# Altium footprint library PcbLib.PcbLib: 41 footprints (part 2 of 3)
Each footprint in its own frame and in the unit in brackets; x right, y up, seen from the top. Pads: shape width x height; smd on the part's side, far side on the other; paste and mask are expansions set on the pad; w line width, h text height; cw(c..) or ccw(c..) is an arc to the next point about the centre after c.
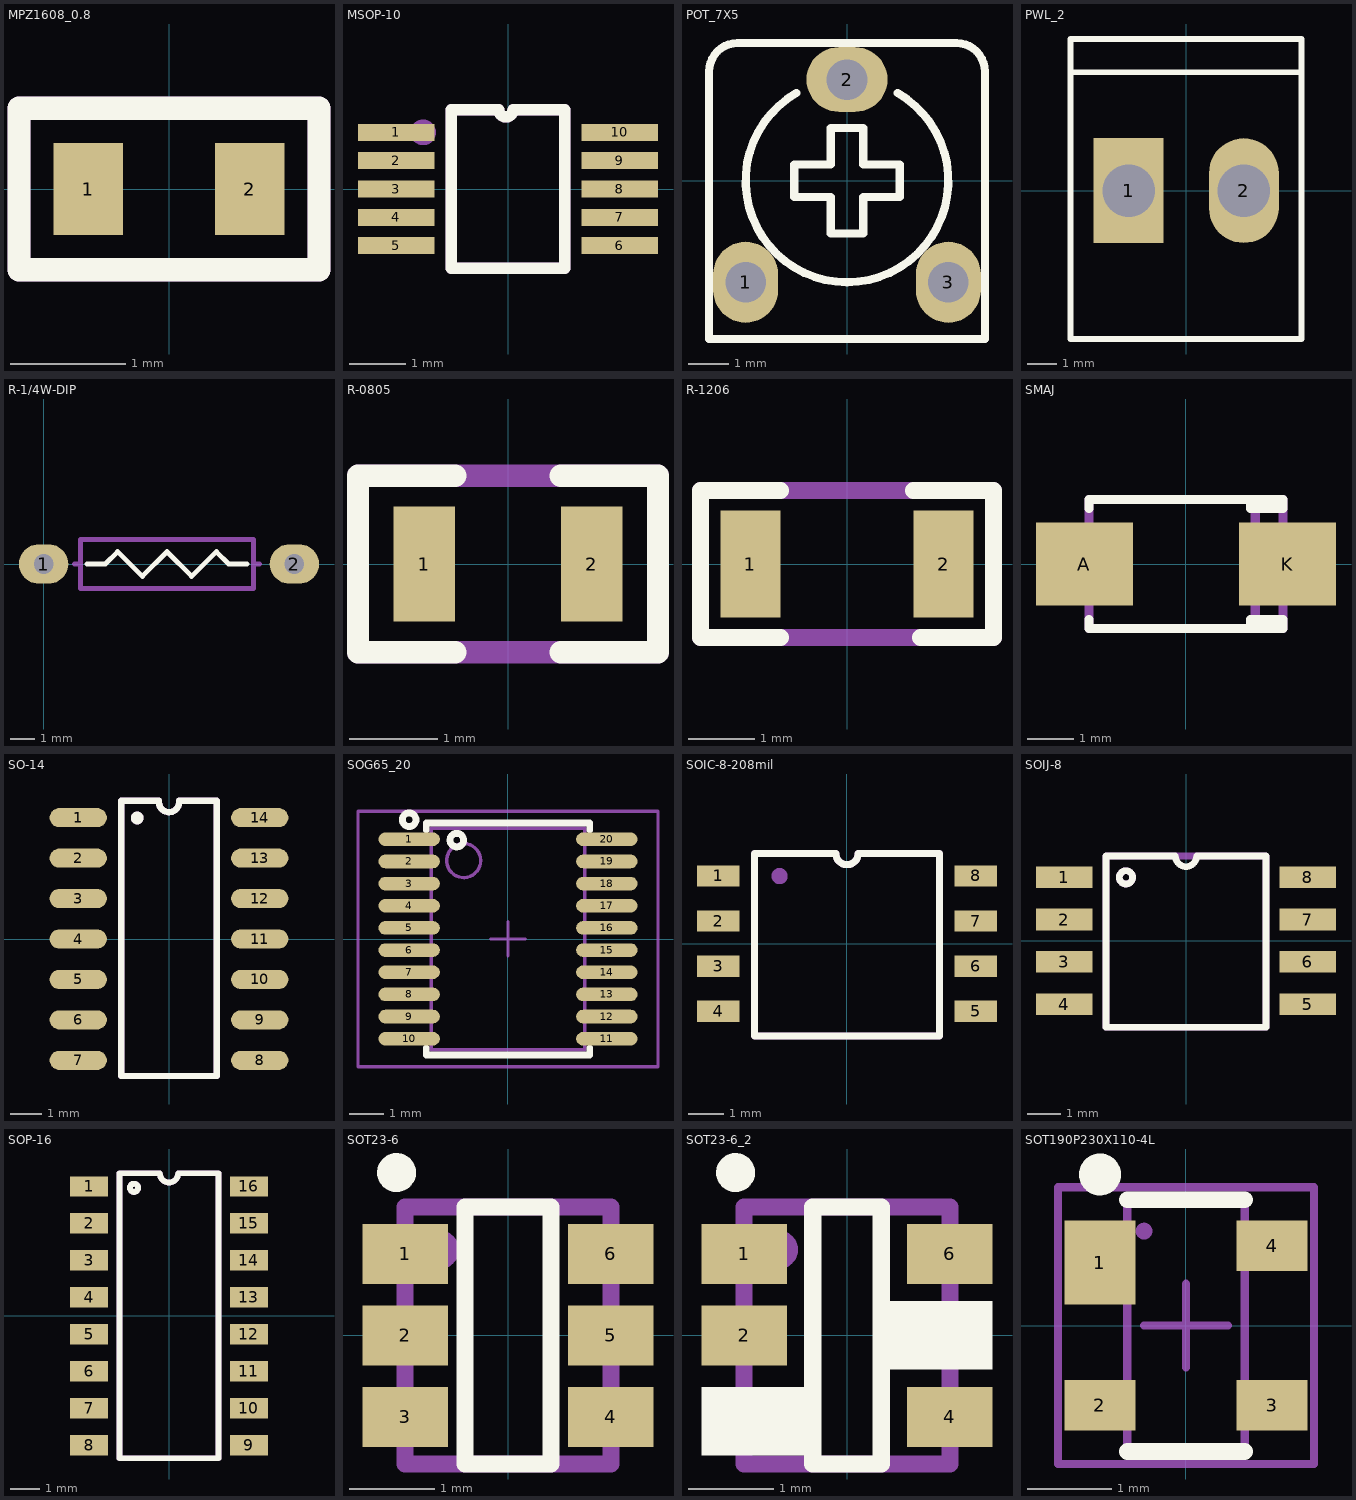
[diagram p1: the footprints below, top view; thin cyan lines are the x and y axes]

## MPZ1608_0.8 [mm]
pads (2):
  rect 0.6x0.8 smd: 1(-0.7,0) 2(0.7,0)
Top Overlay:
  lines w0.2: -1.3,-0.7 -1.3,0.7 1.3,0.7 1.3,-0.7 -1.3,-0.7
Mechanical 29:
  lines w0.2: -1.3,-0.7 1.3,-0.7 1.3,0.7 -1.3,0.7 -1.3,-0.7
  text ".Designator" at -0.6,-0.233 h0.5
3D body "Part4.STEP": height 0.8, standoff 0, extent -0.8,-0.4 0.8,0.4

## MSOP-10 [mm]
pads (10):
  rect 1.35x0.3 smd mask+0.05: 1(-1.975,1) 2(-1.975,0.5) 3(-1.975,0) 4(-1.975,-0.5) 5(-1.975,-1) 6(1.975,-1) 7(1.975,-0.5) 8(1.975,0) 9(1.975,0.5) 10(1.975,1)
Top Overlay:
  lines w0.2: 0.962,1.4 0.087,1.4 cw(c-0.038,1.4) -0.162,1.4 -1,1.4 -1,-1.4 1,-1.4 1,1.4
Mechanical 29:
  circle w0.254: c-1.5,1 r0.1
  lines w0.2: 0.962,1.4 0.087,1.4 cw(c-0.038,1.4) -0.162,1.4 -1,1.4 -1,-1.4 1,-1.4 1,1.4
  text ".Designator" at 0.233,-1 h0.8
3D body "User Library-msop-10.step": height 1.15, standoff 0, extent -2.45,-1.5 2.45,1.5

## POT_7X5 [mm] "POT, TRIM, 7.5X5.0mm, pitch: 5.0mm"
pads (3):
  oval 1.6x2 hole 1: 1(-2.5,-2.5) 3(2.5,-2.5)
  oval 2x1.6 hole 1: 2(0,2.5)
Top Overlay:
  lines w0.2: -1.25,2.165 ccw(c0,0) 1.25,2.165 ; -3.4,-3.9 3.4,-3.9 3.4,2.7 ccw(c2.7,2.7) 2.7,3.4 -2.7,3.4 ccw(c-2.7,2.7) -3.4,2.7 -3.4,-3.9 ; -1.3,-0.4 -0.4,-0.4 -0.4,-1.3 0.4,-1.3 0.4,-0.4 1.3,-0.4 1.3,0.4 0.4,0.4 0.4,1.3 -0.4,1.3 -0.4,0.4 -1.3,0.4 -1.3,-0.4
3D body "User Library-Pot - RES_VAR1.STEP": height 7.5, standoff -3.4, extent -3.25,-3.775 3.25,3.275

## PWL_2 [mm] "Connector; Header; 2 Position"
height 0.001
pads (2):
  rect 2.4x3.6 hole 1.8: 1(-1.98,0)
  oval 2.4x3.6 hole 1.8: 2(1.98,0)
Top Overlay:
  lines w0.2: -3.98,4.064 3.96,4.064 ; -3.98,-5.1 3.96,-5.1 3.96,5.207 -3.98,5.207 -3.98,-5.1
3D body "PWL-2.stp": height 13.5, standoff -4, extent -3.96,-5 3.96,5

## R-1/4W-DIP [mm]
pads (2):
  oval 2x1.6 hole 0.8 paste+0 mask+0.04: 1(0,0) 2(10.16,0)
Top Overlay:
  lines w0.2: 1.75,0 2.5,0 3,0.5 4,-0.5 ; 8.25,0 7.5,0 ; 4,-0.5 4,-0.5 ; 4,-0.5 5,0.5 6,-0.5 ; 6,-0.5 6,-0.5 ; 6,-0.5 7,0.5 7.5,0 ; 7.5,0 7.5,0
Mechanical 29:
  lines w0.2: 1.25,0 1.5,0 ; 8.5,0 8.75,0 ; 1.5,-1 8.5,-1 8.5,1 1.5,1 1.5,-1
  text ".Designator" at 3.45,-0.467 h1
3D body "User Library-RESISTOR, 0_25 W, 0_4 IN LEAD PITCH.step": height 2.93, standoff -2.54, extent -0.305,-1.156 10.465,1.156

## R-0805 [mm]
pads (2):
  rect 0.7x1.3 smd: 1(-0.95,0) 2(0.95,0)
Top Overlay:
  lines w0.254: -0.6,-1 -1.7,-1 -1.7,1 -0.6,1 ; 0.6,-1 1.7,-1 1.7,1 0.6,1
Mechanical 29:
  lines w0.254: -1.7,-1 1.7,-1 1.7,1 -1.7,1 -1.7,-1
  text ".Designator" at -0.996,-0.413 h1
3D body "Res0805.step": height 0.6, standoff 0, extent -1,-0.625 1,0.625

## R-1206 [mm]
pads (2):
  rect 0.9x1.6 smd: 1(-1.45,0) 2(1.45,0)
Top Overlay:
  lines w0.254: -1,-1.1 -2.2,-1.1 -2.2,1.1 -1,1.1 ; 1,1.1 2.2,1.1 2.2,-1.1 1.1,-1.1
Mechanical 29:
  lines w0.254: -2.2,-1.1 2.2,-1.1 2.2,1.1 -2.2,1.1 -2.2,-1.1
  text ".Designator" at -0.996,-0.163 h1
3D body "Res1206.step": height 0.6, standoff 0, extent -1.575,-0.8 1.625,0.8

## SMAJ [mm]
pads (2):
  rect 2.1x1.8 smd: A(-2.2,0) K(2.2,0)
Top Overlay:
  lines w0.2: -2.1,-1.2 -2.1,-1.4 2.1,-1.4 2.1,-1.2 1.4,-1.2 1.4,-1.4 ; -2.1,1.2 -2.1,1.4 2.1,1.4 2.1,1.2 1.4,1.2 1.4,1.4 ; 1.4,-1.3 2.1,-1.3 ; 1.4,1.3 2.1,1.3
Mechanical 29:
  lines w0.2: 1.5,-1.4 1.5,1.4 ; -2.1,-1.4 -2.1,1.4 2.1,1.4 2.1,-1.4 -2.1,-1.4
  text ".Designator" at -1.2,-0.367 h1
3D body "User Library-SMAJ.step": height 2, standoff 0.01, extent -2.465,-1.27 2.465,1.27

## SO-14 [mm]
pads (14):
  oval 1.8x0.6 smd: 1(-2.85,3.81) 2(-2.85,2.54) 3(-2.85,1.27) 4(-2.85,0) 5(-2.85,-1.27) 6(-2.85,-2.54) 7(-2.85,-3.81) 8(2.85,-3.81) 9(2.85,-2.54) 10(2.85,-1.27) 11(2.85,0) 12(2.85,1.27) 13(2.85,2.54) 14(2.85,3.81)
Top Overlay:
  circle w0.2: c-1,3.8 r0.1
  lines w0.2: -0.315,4.339 ccw(c0,4.3) 0.316,4.33 ; -0.315,4.345 -1.5,4.345 -1.5,-4.3 1.5,-4.3 1.5,4.345 0.316,4.345
Mechanical 29:
  circle w0.2: c-1,3.8 r0.1
  lines w0.2: -0.315,4.339 ccw(c0,4.3) 0.316,4.33 ; -0.315,4.345 -1.5,4.345 -1.5,-4.3 1.5,-4.3 1.5,4.345 0.316,4.345
  text ".Designator" at 0.367,-1.3 h1
3D body "User Library-so14-1.step": height 1.7, standoff 0, extent -3,-4.4 3,4.4

## SOG65_20 [mm] "PW TSSOP (TI), MO-153-AC (JEDEC), 20Lead, pitch: 0.65mm, 6.5x4.4x1.2mm"
height 1.2
pads (20):
  oval 1.8x0.4 smd mask+0.075: 1(-2.9,2.925) 2(-2.9,2.275) 3(-2.9,1.625) 4(-2.9,0.975) 5(-2.9,0.325) 6(-2.9,-0.325) 7(-2.9,-0.975) 8(-2.9,-1.625) 9(-2.9,-2.275) 10(-2.9,-2.925) 11(2.9,-2.925) 12(2.9,-2.275) 13(2.9,-1.625) 14(2.9,-0.975) 15(2.9,-0.325) 16(2.9,0.325) 17(2.9,0.975) 18(2.9,1.625) 19(2.9,2.275) 20(2.9,2.925)
Top Overlay:
  circle w0.2: c-2.9,3.5 r0.2
  circle w0.2: c-1.5,2.9 r0.2
  lines w0.2: -2.4,-3.2 -2.4,-3.4 2.4,-3.4 2.4,-3.2 ; -2.4,3.2 -2.4,3.4 2.4,3.4 2.4,3.2
Mechanical 13:
  circle w0.1: c-1.3,2.3 r0.5
  lines w0.1: -2.25,-3.25 -2.25,3.25 2.25,3.25 2.25,-3.25 -2.25,-3.25
Mechanical 15:
  lines w0.1: -0.5,0 0.5,0 ; 0,-0.5 0,0.5 ; -4.4,-3.75 -4.4,3.75 4.4,3.75 4.4,-3.75 -4.4,-3.75
3D body "User Library-TSSOP-20-2.STEP": height 1.2, standoff 0, extent -3.2,-3.25 3.2,3.25

## SOIC-8-208mil [mm]
pads (8):
  rect 1.2x0.6 smd: 1(-3.625,1.905) 2(-3.625,0.635) 3(-3.625,-0.635) 4(-3.625,-1.905) 5(3.625,-1.905) 6(3.625,-0.635) 7(3.625,0.635) 8(3.625,1.905)
Top Overlay:
  lines w0.2: -2.6,-2.6 -2.6,2.54 -0.318,2.54 ccw(c0,2.54) 0.318,2.54 2.6,2.54 2.6,-2.6 -2.6,-2.6
Mechanical 29:
  circle w0.254: c-1.9,1.9 r0.1
  lines w0.2: -2.6,-2.6 -2.6,2.54 -0.318,2.54 ccw(c0,2.54) 0.318,2.54 2.6,2.54 2.6,-2.6 -2.6,-2.6
  text ".Designaror" at -0.9,-0.333 h0.8
3D body "MY SOIC 8.STEP": height 1.95, standoff 0, extent -3.912,-2.642 3.988,2.638

## SOIJ-8 [mm]
pads (8):
  rect 1.7x0.65 smd: 1(-3.65,1.905) 2(-3.65,0.635) 3(-3.65,-0.635) 4(-3.65,-1.905) 5(3.65,-1.905) 6(3.65,-0.635) 7(3.65,0.635) 8(3.65,1.905)
Top Overlay:
  circle w0.2: c-1.8,1.9 r0.2
  lines w0.2: -2.4,-2.6 -2.4,2.54 -0.318,2.54 ccw(c0,2.54) 0.318,2.54 2.4,2.54 2.4,-2.6 -2.4,-2.6
Mechanical 29:
  circle w0.2: c-1.8,1.9 r0.2
  lines w0.2: -2.4,-2.6 -0.3,-2.6 2.4,-2.6 2.4,2.54 -2.4,2.54 -2.4,-2.6
  text ".Designator" at -1.6,-0.934 h2
3D body "SOIJ-8_2.STEP": height 2.09, standoff 0.02, extent -3.945,-2.675 3.995,2.585

## SOP-16 [mm]
pads (16):
  rect 1.3x0.7 smd: 1(-2.75,4.445) 2(-2.75,3.175) 3(-2.75,1.905) 4(-2.75,0.635) 5(-2.75,-0.635) 6(-2.75,-1.905) 7(-2.75,-3.175) 8(-2.75,-4.445) 9(2.75,-4.445) 10(2.75,-3.175) 11(2.75,-1.905) 12(2.75,-0.635) 13(2.75,0.635) 14(2.75,1.905) 15(2.75,3.175) 16(2.75,4.445)
Top Overlay:
  circle w0.2: c-1.2,4.4 r0.141
  lines w0.2: -1.7,-4.9 -1.7,4.9 -0.318,4.9 ccw(c0,4.9) 0.318,4.9 1.7,4.9 1.7,-4.9 -1.7,-4.9
Mechanical 29:
  circle w0.2: c-1.2,4.4 r0.141
  lines w0.2: -1.7,-4.9 -1.7,4.9 -0.318,4.9 ccw(c0,4.9) 0.318,4.9 1.7,4.9 1.7,-4.9 -1.7,-4.9
  text ".Designator" at 0.367,-0.8 h1
3D body "User Library-sop16-1.step": height 1.58, standoff 0, extent -3.117,-4.991 3.117,4.99

## SOT23-6 [mm]
pads (6):
  rect 1x0.7 smd mask+0.05: 1(-1.2,0.95) 2(-1.2,0) 3(-1.2,-0.95) 4(1.2,-0.95) 5(1.2,0) 6(1.2,0.95)
Top Overlay:
  lines w0.2: -0.5,-1.5 0.5,-1.5 0.5,1.5 -0.5,1.5 -0.5,-1.5
  lines w0.254: -1.203,1.876 cw(c-1.3,1.9) -1.2,1.9
Mechanical 29:
  circle w0.254: c-0.8,1 r0.1
  lines w0.2: -1.2,-1.5 -1.2,1.5 1.2,1.5 1.2,-1.5 -1.2,-1.5
  text ".Designator" at -0.8,-0.567 h1
3D body "SOT-23-6.step": height 1.09, standoff 0, extent -1.2,-1.397 1.226,1.397

## SOT23-6_2 [mm] "AP6972S"
pads (4):
  rect 1x0.7 smd mask+0.05: 1(-1.2,0.95) 2(-1.2,0) 4(1.2,-0.95) 6(1.2,0.95)
Top Overlay:
  rectangle: 0.4,-0.4 1.7,0.4
  rectangle: -1.7,-1.4 -0.4,-0.6
  lines w0.2: -0.4,-1.5 -0.4,1.5 0.4,1.5 0.4,-1.5 -0.4,-1.5
  lines w0.254: -1.203,1.876 cw(c-1.3,1.9) -1.2,1.9
Mechanical 29:
  circle w0.254: c-0.8,1 r0.1
  lines w0.2: -1.2,-1.5 1.2,-1.5 1.2,1.5 -1.2,1.5 -1.2,-1.5
  text ".Designator" at -0.8,-0.567 h1
3D body "SOT-23-6.step": height 1.09, standoff 0, extent -1.2,-1.397 1.226,1.397

## SOT190P230X110-4L [mm]
pads (4):
  rect 0.85x1 smd: 1(-1.025,0.75)
  rect 0.85x0.6 smd: 2(-1.025,-0.95) 3(1.025,-0.95) 4(1.025,0.95)
Top Overlay:
  circle w0.25: c-1.025,1.8 r0.125
  lines w0.2: -0.7,-1.5 0.7,-1.5 ; -0.7,1.5 0.7,1.5
Mechanical 29:
  circle w0.1: c-0.5,1.125 r0.05
  lines w0.1: -0.7,-1.5 0.7,-1.5 0.7,1.5 -0.7,1.5 -0.7,-1.5
  text ".Designator" at -0.152,0.178 h0.3
Mechanical 15:
  lines w0.1: -0.5,0 0.5,0 ; 0,-0.5 0,0.5 ; -1.525,-1.65 1.525,-1.65 1.525,1.65 -1.525,1.65 -1.525,-1.65
3D body "User Library-sot143.step": height 1, standoff 0, extent -1.21,-1.46 1.21,1.46